# Altium footprint library BMD330AR.PcbLib: 1 footprints
Each footprint in its own frame and in the unit in brackets; x right, y up, seen from the top. Pads: shape width x height; smd on the part's side, far side on the other; paste and mask are expansions set on the pad; w line width, h text height; cw(c..) or ccw(c..) is an arc to the next point about the centre after c.
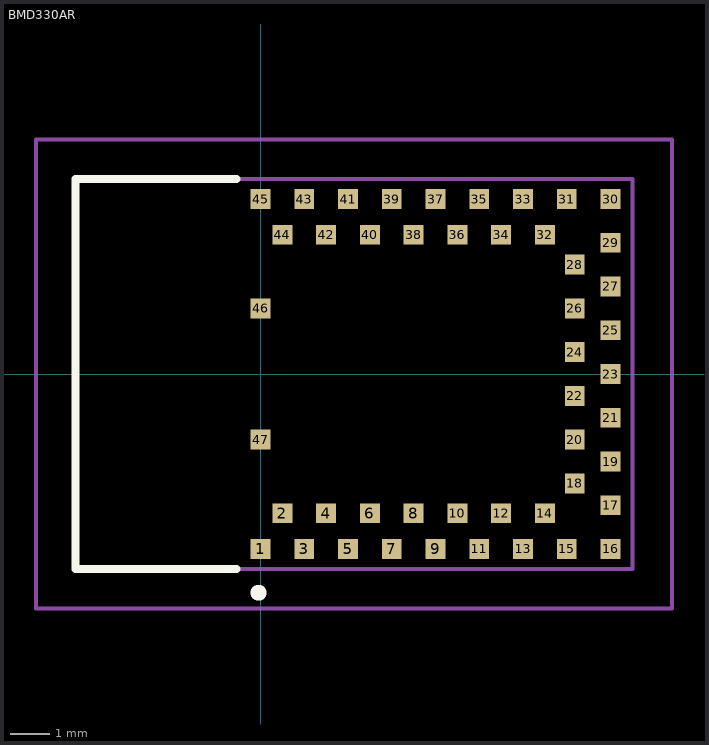
[diagram p0: the footprint, top view; thin cyan lines are the x and y axes]

## BMD330AR [mm]
pads (47):
  rect 0.5x0.5 smd: 1(0,-4.4) 2(0.55,-3.5) 3(1.1,-4.4) 4(1.65,-3.5) 5(2.2,-4.4) 6(2.75,-3.5) 7(3.3,-4.4) 8(3.85,-3.5) 9(4.4,-4.4) 10(4.95,-3.5) 11(5.5,-4.4) 12(6.05,-3.5) 13(6.6,-4.4) 14(7.15,-3.5) 15(7.7,-4.4) 16(8.8,-4.4) 17(8.8,-3.3) 18(7.9,-2.75) 19(8.8,-2.2) 20(7.9,-1.65) 21(8.8,-1.1) 22(7.9,-0.55) 23(8.8,0) 24(7.9,0.55) 25(8.8,1.1) 26(7.9,1.65) 27(8.8,2.2) 28(7.9,2.75) 29(8.8,3.3) 30(8.8,4.4) 31(7.7,4.4) 32(7.15,3.5) 33(6.6,4.4) 34(6.05,3.5) 35(5.5,4.4) 36(4.95,3.5) 37(4.4,4.4) 38(3.85,3.5) 39(3.3,4.4) 40(2.75,3.5) 41(2.2,4.4) 42(1.65,3.5) 43(1.1,4.4) 44(0.55,3.5) 45(0,4.4) 46(0,1.65) 47(0,-1.65)
Top Overlay:
  lines w0.2: -0.6,-4.9 -4.65,-4.9 -4.65,4.9 -0.6,4.9 ; -0.05,-5.6 cw(c-0.05,-5.5) -0.05,-5.4 ; -0.05,-5.6 -0.05,-5.6 ; -0.05,-5.6 ccw(c-0.05,-5.5) -0.05,-5.4 ; -0.05,-5.4 -0.05,-5.4
Mechanical 15:
  lines w0.1: -4.65,-4.9 9.35,-4.9 9.35,4.9 -4.65,4.9 -4.65,-4.9
Mechanical 20:
  lines w0.1: -5.65,-5.9 10.35,-5.9 10.35,5.9 -5.65,5.9 -5.65,-5.9